# Altium footprint library IPC-SM-782 Section 12.1 PLCC-Square.PcbLib: 8 footprints
Each footprint in its own frame and in the unit in brackets; x right, y up, seen from the top. Pads: shape width x height; smd on the part's side, far side on the other; paste and mask are expansions set on the pad; w line width, h text height; cw(c..) or ccw(c..) is an arc to the next point about the centre after c.
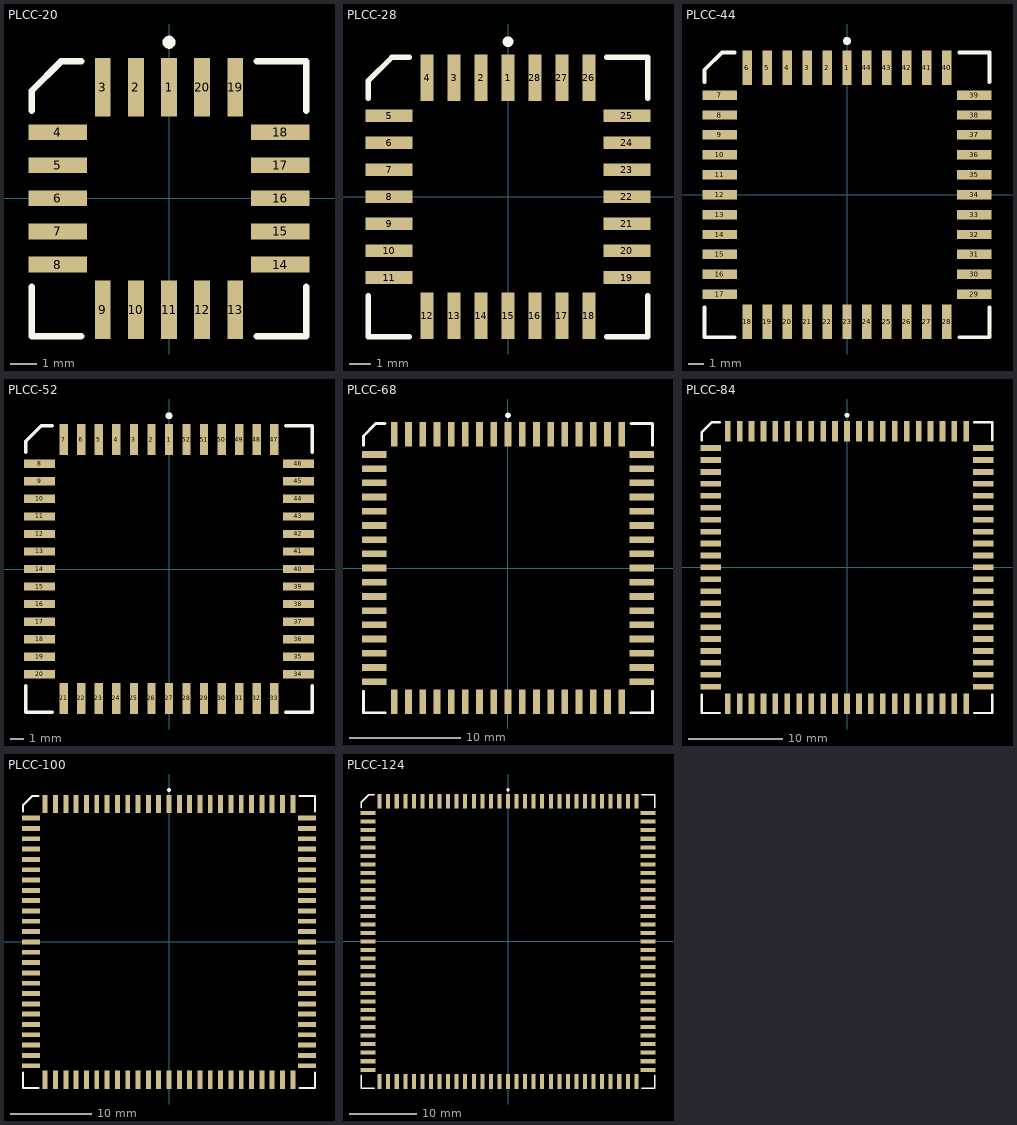
[diagram p0: the footprints below, top view; thin cyan lines are the x and y axes]

## PLCC-20 [mm] "PLCC; 20 Leads; Body 9 x 9 mm"
height 4.57
pads (20):
  rect 0.6x2.25 smd: 1(0,4.275) 2(-1.27,4.275) 3(-2.54,4.275) 9(-2.54,-4.275) 10(-1.27,-4.275) 11(0,-4.275) 12(1.27,-4.275) 13(2.54,-4.275) 19(2.54,4.275) 20(1.27,4.275)
  rect 2.25x0.6 smd: 4(-4.275,2.54) 5(-4.275,1.27) 6(-4.275,0) 7(-4.275,-1.27) 8(-4.275,-2.54) 14(4.275,-2.54) 15(4.275,-1.27) 16(4.275,0) 17(4.275,1.27) 18(4.275,2.54)
Top Overlay:
  circle w0.25: c0,6 r0.125
  lines w0.25: -5.275,-3.387 -5.275,-5.287 -3.375,-5.287 ; -5.275,3.363 -5.275,4.138 -4.15,5.262 -3.375,5.262 ; 3.375,-5.287 5.275,-5.287 5.275,-3.387 ; 3.375,5.262 5.275,5.262 5.275,3.363

## PLCC-28 [mm] "PLCC; 28 Leads; Body 11.5 x 11.5 mm"
height 4.57
pads (28):
  rect 0.6x2.2 smd: 1(0,5.6) 2(-1.27,5.6) 3(-2.54,5.6) 4(-3.81,5.6) 12(-3.81,-5.6) 13(-2.54,-5.6) 14(-1.27,-5.6) 15(0,-5.6) 16(1.27,-5.6) 17(2.54,-5.6) 18(3.81,-5.6) 26(3.81,5.6) 27(2.54,5.6) 28(1.27,5.6)
  rect 2.2x0.6 smd: 5(-5.6,3.81) 6(-5.6,2.54) 7(-5.6,1.27) 8(-5.6,0) 9(-5.6,-1.27) 10(-5.6,-2.54) 11(-5.6,-3.81) 19(5.6,-3.81) 20(5.6,-2.54) 21(5.6,-1.27) 22(5.6,0) 23(5.6,1.27) 24(5.6,2.54) 25(5.6,3.81)
Top Overlay:
  circle w0.25: c0,7.3 r0.125
  lines w0.25: -6.575,-4.658 -6.575,-6.588 -4.645,-6.588 ; -6.575,4.632 -6.575,5.463 -5.475,6.563 -4.645,6.563 ; 4.645,-6.588 6.575,-6.588 6.575,-4.658 ; 4.645,6.563 6.575,6.563 6.575,4.632

## PLCC-44 [mm] "PLCC; 44 Leads; Body 16.5 x 16.5 mm"
height 4.57
pads (44):
  rect 0.6x2.2 smd: 1(0,8.1) 2(-1.27,8.1) 3(-2.54,8.1) 4(-3.81,8.1) 5(-5.08,8.1) 6(-6.35,8.1) 18(-6.35,-8.1) 19(-5.08,-8.1) 20(-3.81,-8.1) 21(-2.54,-8.1) 22(-1.27,-8.1) 23(0,-8.1) 24(1.27,-8.1) 25(2.54,-8.1) 26(3.81,-8.1) 27(5.08,-8.1) 28(6.35,-8.1) 40(6.35,8.1) 41(5.08,8.1) 42(3.81,8.1) 43(2.54,8.1) 44(1.27,8.1)
  rect 2.2x0.6 smd: 7(-8.1,6.35) 8(-8.1,5.08) 9(-8.1,3.81) 10(-8.1,2.54) 11(-8.1,1.27) 12(-8.1,0) 13(-8.1,-1.27) 14(-8.1,-2.54) 15(-8.1,-3.81) 16(-8.1,-5.08) 17(-8.1,-6.35) 29(8.1,-6.35) 30(8.1,-5.08) 31(8.1,-3.81) 32(8.1,-2.54) 33(8.1,-1.27) 34(8.1,0) 35(8.1,1.27) 36(8.1,2.54) 37(8.1,3.81) 38(8.1,5.08) 39(8.1,6.35)
Top Overlay:
  circle w0.25: c0,9.8 r0.125
  lines w0.25: -9.075,-7.198 -9.075,-9.087 -7.185,-9.087 ; -9.075,7.172 -9.075,7.963 -7.975,9.063 -7.185,9.063 ; 7.185,-9.087 9.075,-9.087 9.075,-7.198 ; 7.185,9.063 9.075,9.063 9.075,7.172

## PLCC-52 [mm] "PLCC; 52 Leads; Body 19 x 19 mm"
height 5.08
pads (52):
  rect 0.6x2.25 smd: 1(0,9.375) 2(-1.27,9.375) 3(-2.54,9.375) 4(-3.81,9.375) 5(-5.08,9.375) 6(-6.35,9.375) 7(-7.62,9.375) 21(-7.62,-9.375) 22(-6.35,-9.375) 23(-5.08,-9.375) 24(-3.81,-9.375) 25(-2.54,-9.375) 26(-1.27,-9.375) 27(0,-9.375) 28(1.27,-9.375) 29(2.54,-9.375) 30(3.81,-9.375) 31(5.08,-9.375) 32(6.35,-9.375) 33(7.62,-9.375) 47(7.62,9.375) 48(6.35,9.375) 49(5.08,9.375) 50(3.81,9.375) 51(2.54,9.375) 52(1.27,9.375)
  rect 2.25x0.6 smd: 8(-9.375,7.62) 9(-9.375,6.35) 10(-9.375,5.08) 11(-9.375,3.81) 12(-9.375,2.54) 13(-9.375,1.27) 14(-9.375,0) 15(-9.375,-1.27) 16(-9.375,-2.54) 17(-9.375,-3.81) 18(-9.375,-5.08) 19(-9.375,-6.35) 20(-9.375,-7.62) 34(9.375,-7.62) 35(9.375,-6.35) 36(9.375,-5.08) 37(9.375,-3.81) 38(9.375,-2.54) 39(9.375,-1.27) 40(9.375,0) 41(9.375,1.27) 42(9.375,2.54) 43(9.375,3.81) 44(9.375,5.08) 45(9.375,6.35) 46(9.375,7.62)
Top Overlay:
  circle w0.25: c0,11.1 r0.125
  lines w0.25: -10.375,-8.468 -10.375,-10.387 -8.455,-10.387 ; -10.375,8.442 -10.375,9.238 -9.25,10.363 -8.455,10.363 ; 8.455,-10.387 10.375,-10.387 10.375,-8.468 ; 8.455,10.363 10.375,10.363 10.375,8.442

## PLCC-68 [mm] "PLCC; 68 Leads; Body 24.2 x 24.2 mm"
height 5.08
pads (68):
  rect 0.6x2.2 smd: 1(0,11.95) 2(-1.27,11.95) 3(-2.54,11.95) 4(-3.81,11.95) 5(-5.08,11.95) 6(-6.35,11.95) 7(-7.62,11.95) 8(-8.89,11.95) 9(-10.16,11.95) 27(-10.16,-11.95) 28(-8.89,-11.95) 29(-7.62,-11.95) 30(-6.35,-11.95) 31(-5.08,-11.95) 32(-3.81,-11.95) 33(-2.54,-11.95) 34(-1.27,-11.95) 35(0,-11.95) 36(1.27,-11.95) 37(2.54,-11.95) 38(3.81,-11.95) 39(5.08,-11.95) 40(6.35,-11.95) 41(7.62,-11.95) 42(8.89,-11.95) 43(10.16,-11.95) 61(10.16,11.95) 62(8.89,11.95) 63(7.62,11.95) 64(6.35,11.95) 65(5.08,11.95) 66(3.81,11.95) 67(2.54,11.95) 68(1.27,11.95)
  rect 2.2x0.6 smd: 10(-11.95,10.16) 11(-11.95,8.89) 12(-11.95,7.62) 13(-11.95,6.35) 14(-11.95,5.08) 15(-11.95,3.81) 16(-11.95,2.54) 17(-11.95,1.27) 18(-11.95,0) 19(-11.95,-1.27) 20(-11.95,-2.54) 21(-11.95,-3.81) 22(-11.95,-5.08) 23(-11.95,-6.35) 24(-11.95,-7.62) 25(-11.95,-8.89) 26(-11.95,-10.16) 44(11.95,-10.16) 45(11.95,-8.89) 46(11.95,-7.62) 47(11.95,-6.35) 48(11.95,-5.08) 49(11.95,-3.81) 50(11.95,-2.54) 51(11.95,-1.27) 52(11.95,0) 53(11.95,1.27) 54(11.95,2.54) 55(11.95,3.81) 56(11.95,5.08) 57(11.95,6.35) 58(11.95,7.62) 59(11.95,8.89) 60(11.95,10.16)
Top Overlay:
  circle w0.25: c0,13.65 r0.125
  lines w0.25: -12.925,-11.008 -12.925,-12.938 -10.995,-12.938 ; -12.925,10.982 -12.925,11.813 -11.825,12.913 -10.995,12.913 ; 10.995,-12.938 12.925,-12.938 12.925,-11.008 ; 10.995,12.913 12.925,12.913 12.925,10.982

## PLCC-84 [mm] "PLCC; 84 Leads; Body 29.3 x 29.3 mm"
height 5.08
pads (84):
  rect 0.6x2.2 smd: 1(0,14.5) 2(-1.27,14.5) 3(-2.54,14.5) 4(-3.81,14.5) 5(-5.08,14.5) 6(-6.35,14.5) 7(-7.62,14.5) 8(-8.89,14.5) 9(-10.16,14.5) 10(-11.43,14.5) 11(-12.7,14.5) 33(-12.7,-14.5) 34(-11.43,-14.5) 35(-10.16,-14.5) 36(-8.89,-14.5) 37(-7.62,-14.5) 38(-6.35,-14.5) 39(-5.08,-14.5) 40(-3.81,-14.5) 41(-2.54,-14.5) 42(-1.27,-14.5) 43(0,-14.5) 44(1.27,-14.5) 45(2.54,-14.5) 46(3.81,-14.5) 47(5.08,-14.5) 48(6.35,-14.5) 49(7.62,-14.5) 50(8.89,-14.5) 51(10.16,-14.5) 52(11.43,-14.5) 53(12.7,-14.5) 75(12.7,14.5) 76(11.43,14.5) 77(10.16,14.5) 78(8.89,14.5) 79(7.62,14.5) 80(6.35,14.5) 81(5.08,14.5) 82(3.81,14.5) 83(2.54,14.5) 84(1.27,14.5)
  rect 2.2x0.6 smd: 12(-14.5,12.7) 13(-14.5,11.43) 14(-14.5,10.16) 15(-14.5,8.89) 16(-14.5,7.62) 17(-14.5,6.35) 18(-14.5,5.08) 19(-14.5,3.81) 20(-14.5,2.54) 21(-14.5,1.27) 22(-14.5,0) 23(-14.5,-1.27) 24(-14.5,-2.54) 25(-14.5,-3.81) 26(-14.5,-5.08) 27(-14.5,-6.35) 28(-14.5,-7.62) 29(-14.5,-8.89) 30(-14.5,-10.16) 31(-14.5,-11.43) 32(-14.5,-12.7) 54(14.5,-12.7) 55(14.5,-11.43) 56(14.5,-10.16) 57(14.5,-8.89) 58(14.5,-7.62) 59(14.5,-6.35) 60(14.5,-5.08) 61(14.5,-3.81) 62(14.5,-2.54) 63(14.5,-1.27) 64(14.5,0) 65(14.5,1.27) 66(14.5,2.54) 67(14.5,3.81) 68(14.5,5.08) 69(14.5,6.35) 70(14.5,7.62) 71(14.5,8.89) 72(14.5,10.16) 73(14.5,11.43) 74(14.5,12.7)
Top Overlay:
  circle w0.25: c0,16.2 r0.125
  lines w0.25: -15.475,-13.547 -15.475,-15.487 -13.535,-15.487 ; -15.475,13.523 -15.475,14.363 -14.375,15.463 -13.535,15.463 ; 13.535,-15.487 15.475,-15.487 15.475,-13.547 ; 13.535,15.463 15.475,15.463 15.475,13.523

## PLCC-100 [mm] "PLCC; 100 Leads; Body 34 x 34 mm"
height 5.08
pads (100):
  rect 0.6x2.25 smd: 1(0,16.975) 2(-1.27,16.975) 3(-2.54,16.975) 4(-3.81,16.975) 5(-5.08,16.975) 6(-6.35,16.975) 7(-7.62,16.975) 8(-8.89,16.975) 9(-10.16,16.975) 10(-11.43,16.975) 11(-12.7,16.975) 12(-13.97,16.975) 13(-15.24,16.975) 39(-15.24,-16.975) 40(-13.97,-16.975) 41(-12.7,-16.975) 42(-11.43,-16.975) 43(-10.16,-16.975) 44(-8.89,-16.975) 45(-7.62,-16.975) 46(-6.35,-16.975) 47(-5.08,-16.975) 48(-3.81,-16.975) 49(-2.54,-16.975) 50(-1.27,-16.975) 51(0,-16.975) 52(1.27,-16.975) 53(2.54,-16.975) 54(3.81,-16.975) 55(5.08,-16.975) 56(6.35,-16.975) 57(7.62,-16.975) 58(8.89,-16.975) 59(10.16,-16.975) 60(11.43,-16.975) 61(12.7,-16.975) 62(13.97,-16.975) 63(15.24,-16.975) 89(15.24,16.975) 90(13.97,16.975) 91(12.7,16.975) 92(11.43,16.975) 93(10.16,16.975) 94(8.89,16.975) 95(7.62,16.975) 96(6.35,16.975) 97(5.08,16.975) 98(3.81,16.975) 99(2.54,16.975) 100(1.27,16.975)
  rect 2.25x0.6 smd: 14(-16.975,15.24) 15(-16.975,13.97) 16(-16.975,12.7) 17(-16.975,11.43) 18(-16.975,10.16) 19(-16.975,8.89) 20(-16.975,7.62) 21(-16.975,6.35) 22(-16.975,5.08) 23(-16.975,3.81) 24(-16.975,2.54) 25(-16.975,1.27) 26(-16.975,0) 27(-16.975,-1.27) 28(-16.975,-2.54) 29(-16.975,-3.81) 30(-16.975,-5.08) 31(-16.975,-6.35) 32(-16.975,-7.62) 33(-16.975,-8.89) 34(-16.975,-10.16) 35(-16.975,-11.43) 36(-16.975,-12.7) 37(-16.975,-13.97) 38(-16.975,-15.24) 64(16.975,-15.24) 65(16.975,-13.97) 66(16.975,-12.7) 67(16.975,-11.43) 68(16.975,-10.16) 69(16.975,-8.89) 70(16.975,-7.62) 71(16.975,-6.35) 72(16.975,-5.08) 73(16.975,-3.81) 74(16.975,-2.54) 75(16.975,-1.27) 76(16.975,0) 77(16.975,1.27) 78(16.975,2.54) 79(16.975,3.81) 80(16.975,5.08) 81(16.975,6.35) 82(16.975,7.62) 83(16.975,8.89) 84(16.975,10.16) 85(16.975,11.43) 86(16.975,12.7) 87(16.975,13.97) 88(16.975,15.24)
Top Overlay:
  circle w0.25: c0,18.7 r0.125
  lines w0.25: -17.975,-16.087 -17.975,-17.987 -16.075,-17.987 ; -17.975,16.063 -17.975,16.838 -16.85,17.962 -16.075,17.962 ; 16.075,-17.987 17.975,-17.987 17.975,-16.087 ; 16.075,17.962 17.975,17.962 17.975,16.063

## PLCC-124 [mm] "PLCC; 124 Leads; Body 42 x 42 mm"
height 5.08
pads (124):
  rect 0.6x2.2 smd: 1(0,20.8) 2(-1.27,20.8) 3(-2.54,20.8) 4(-3.81,20.8) 5(-5.08,20.8) 6(-6.35,20.8) 7(-7.62,20.8) 8(-8.89,20.8) 9(-10.16,20.8) 10(-11.43,20.8) 11(-12.7,20.8) 12(-13.97,20.8) 13(-15.24,20.8) 14(-16.51,20.8) 15(-17.78,20.8) 16(-19.05,20.8) 48(-19.05,-20.8) 49(-17.78,-20.8) 50(-16.51,-20.8) 51(-15.24,-20.8) 52(-13.97,-20.8) 53(-12.7,-20.8) 54(-11.43,-20.8) 55(-10.16,-20.8) 56(-8.89,-20.8) 57(-7.62,-20.8) 58(-6.35,-20.8) 59(-5.08,-20.8) 60(-3.81,-20.8) 61(-2.54,-20.8) 62(-1.27,-20.8) 63(0,-20.8) 64(1.27,-20.8) 65(2.54,-20.8) 66(3.81,-20.8) 67(5.08,-20.8) 68(6.35,-20.8) 69(7.62,-20.8) 70(8.89,-20.8) 71(10.16,-20.8) 72(11.43,-20.8) 73(12.7,-20.8) 74(13.97,-20.8) 75(15.24,-20.8) 76(16.51,-20.8) 77(17.78,-20.8) 78(19.05,-20.8) 110(19.05,20.8) 111(17.78,20.8) 112(16.51,20.8) 113(15.24,20.8) 114(13.97,20.8) 115(12.7,20.8) 116(11.43,20.8) 117(10.16,20.8) 118(8.89,20.8) 119(7.62,20.8) 120(6.35,20.8) 121(5.08,20.8) 122(3.81,20.8) 123(2.54,20.8) 124(1.27,20.8)
  rect 2.2x0.6 smd: 17(-20.8,19.05) 18(-20.8,17.78) 19(-20.8,16.51) 20(-20.8,15.24) 21(-20.8,13.97) 22(-20.8,12.7) 23(-20.8,11.43) 24(-20.8,10.16) 25(-20.8,8.89) 26(-20.8,7.62) 27(-20.8,6.35) 28(-20.8,5.08) 29(-20.8,3.81) 30(-20.8,2.54) 31(-20.8,1.27) 32(-20.8,0) 33(-20.8,-1.27) 34(-20.8,-2.54) 35(-20.8,-3.81) 36(-20.8,-5.08) 37(-20.8,-6.35) 38(-20.8,-7.62) 39(-20.8,-8.89) 40(-20.8,-10.16) 41(-20.8,-11.43) 42(-20.8,-12.7) 43(-20.8,-13.97) 44(-20.8,-15.24) 45(-20.8,-16.51) 46(-20.8,-17.78) 47(-20.8,-19.05) 79(20.8,-19.05) 80(20.8,-17.78) 81(20.8,-16.51) 82(20.8,-15.24) 83(20.8,-13.97) 84(20.8,-12.7) 85(20.8,-11.43) 86(20.8,-10.16) 87(20.8,-8.89) 88(20.8,-7.62) 89(20.8,-6.35) 90(20.8,-5.08) 91(20.8,-3.81) 92(20.8,-2.54) 93(20.8,-1.27) 94(20.8,0) 95(20.8,1.27) 96(20.8,2.54) 97(20.8,3.81) 98(20.8,5.08) 99(20.8,6.35) 100(20.8,7.62) 101(20.8,8.89) 102(20.8,10.16) 103(20.8,11.43) 104(20.8,12.7) 105(20.8,13.97) 106(20.8,15.24) 107(20.8,16.51) 108(20.8,17.78) 109(20.8,19.05)
Top Overlay:
  circle w0.25: c0,22.5 r0.125
  lines w0.25: -21.775,-19.898 -21.775,-21.787 -19.885,-21.787 ; -21.775,19.872 -21.775,20.663 -20.675,21.763 -19.885,21.763 ; 19.885,-21.787 21.775,-21.787 21.775,-19.898 ; 19.885,21.763 21.775,21.763 21.775,19.872